# EAGLE library part HCPL-253L (library IC)
Agilent HCPL-253 (HCPL-053L) Dual Optocouplers, 3.3V, 1Mb/s
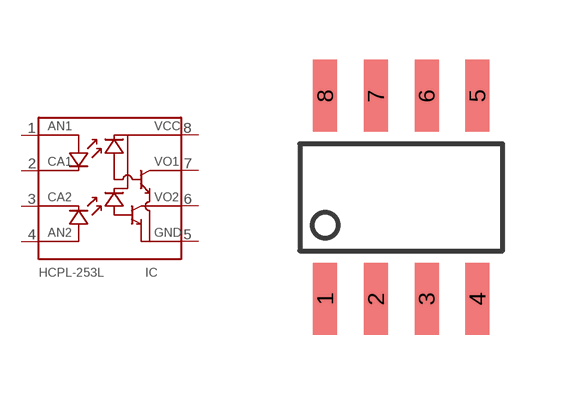
[diagram p137: symbol with the pads of SOIC8; footprint SOIC8]

Designator prefix IC

## HCPL-253L  [SOIC8]
1  AN1
2  CA1
3  CA2
4  AN2
5  GND  pwr
6  VO2
7  VO1
8  VCC  pwr

## Footprint SOIC8 (pad centres in mm)
8 pin SOIC 150-mil package
smd 0.6 x 1.8: 1 -1.905,-2.54; 2 -0.635,-2.54; 3 0.635,-2.54; 4 1.905,-2.54; 5 1.905,2.54; 6 0.635,2.54; 7 -0.635,2.54; 8 -1.905,2.54